# EAGLE library part SN74AHC595D (library flippie)
8 bit Shift registers
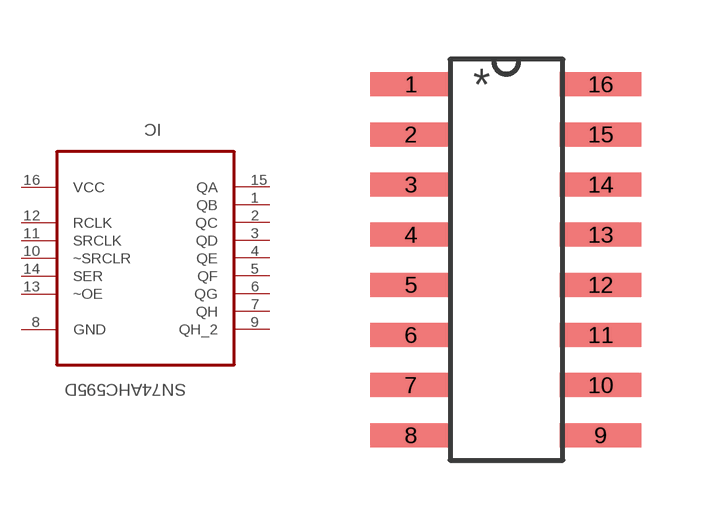
[diagram p2: symbol with the pads of SOIC127P600X175-16N; footprint SOIC127P600X175-16N]

Designator prefix IC

## SN74AHC595D (MPN: SN74AHC595D; OC_FARNELL: 1750222; OC_NEWARK: 50R5928; PACKAGE: SOIC-16; SUPPLIER: Texas Instruments)  [SOIC127P600X175-16N]
1  QB  out
2  QC  out
3  QD  out
4  QE  out
5  QF  out
6  QG  out
7  QH  out
8  GND  pas
9  QH_2  out
10  ~SRCLR  in
11  SRCLK  in
12  RCLK  in
13  ~OE  in
14  SER  in
15  QA  out
16  VCC  pwr

## Footprint SOIC127P600X175-16N (pad centres in mm)
smd 2.057 x 0.61: 1 -2.578,4.445; 2 -2.578,3.175; 3 -2.578,1.905; 4 -2.578,0.635; 5 -2.578,-0.635; 6 -2.578,-1.905; 7 -2.578,-3.175; 8 -2.578,-4.445; 9 2.223,-4.445; 10 2.223,-3.175; 11 2.223,-1.905; 12 2.223,-0.635; 13 2.223,0.635; 14 2.223,1.905; 15 2.223,3.175; 16 2.223,4.445